# Altium integrated library pld-intel.IntLib: 7 symbols
Pins are listed as number, name and electrical type; pins without a type are passive.

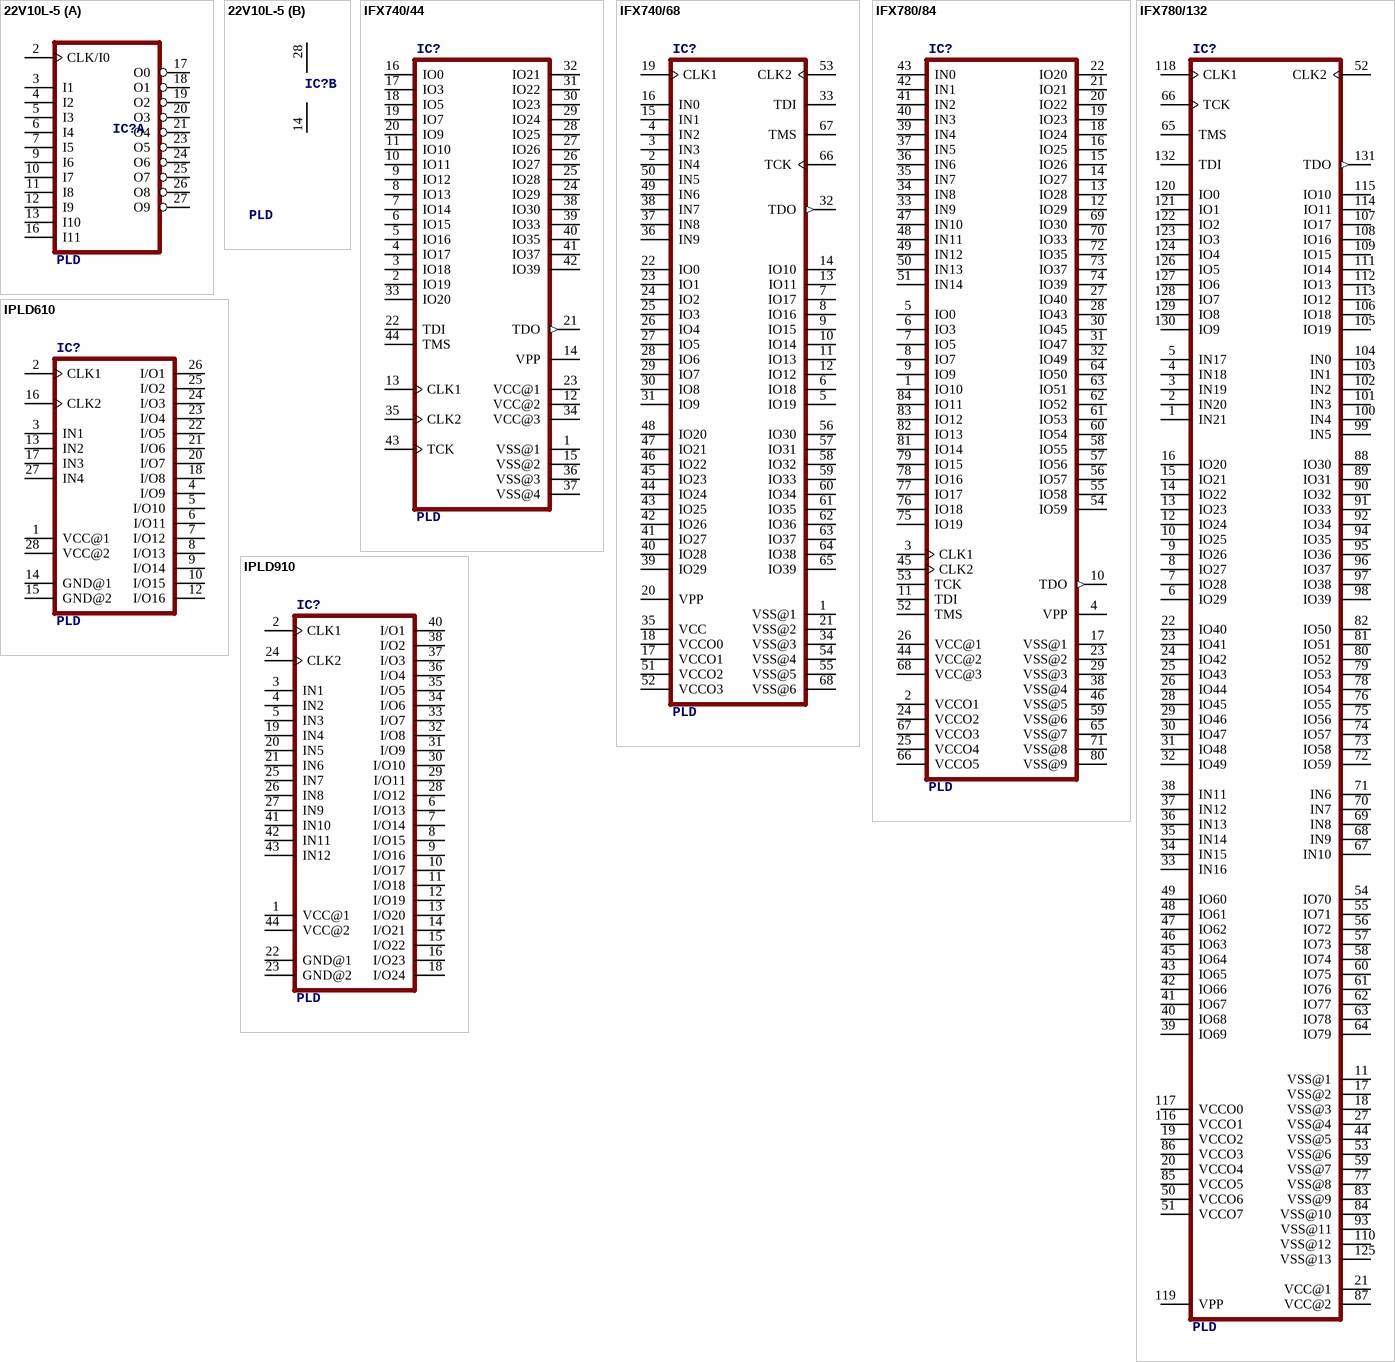
[diagram p0: symbols 22V10L-5 to IPLD910]

## 22V10L-5
designator IC?, comment PLD
OC_FARNELL: unknown; OC_NEWARK: unknown
footprint S28
part A pins: 2 CLK/I0, 3 I1, 4 I2, 5 I3, 6 I4, 7 I5, 9 I6, 10 I7, 11 I8, 12 I9, 13 I10, 16 I11, 17 O0, 18 O1, 19 O2, 20 O3, 21 O4, 23 O5, 24 O6, 25 O7, 26 O8, 27 O9
part B pins: 14 GND (power), 28 VCC (power)

## IFX740/44
designator IC?, comment PLD
OC_FARNELL: unknown; OC_NEWARK: unknown
footprint S44
pins: 1 VSS@1 (power), 2 IO19, 3 IO18, 4 IO17, 5 IO16, 6 IO15, 7 IO14, 8 IO13, 9 IO12, 10 IO11, 11 IO10, 12 VCC@2 (power), 13 CLK1, 14 VPP (oe), 15 VSS@2 (power), 16 IO0, 17 IO3, 18 IO5, 19 IO7, 20 IO9, 21 TDO (out), 22 TDI, 23 VCC@1 (power), 24 IO29, 25 IO28, 26 IO27, 27 IO26, 28 IO25, 29 IO24, 30 IO23, 31 IO22, 32 IO21, 33 IO20, 34 VCC@3 (power), 35 CLK2, 36 VSS@3 (power), 37 VSS@4 (power), 38 IO30, 39 IO33, 40 IO35, 41 IO37, 42 IO39, 43 TCK, 44 TMS

## IFX740/68
designator IC?, comment PLD
OC_FARNELL: unknown; OC_NEWARK: unknown
footprint S68
pins: 1 VSS@1 (power), 2 IN4, 3 IN3, 4 IN2, 5 IO19, 6 IO18, 7 IO17, 8 IO16, 9 IO15, 10 IO14, 11 IO13, 12 IO12, 13 IO11, 14 IO10, 15 IN1, 16 IN0, 17 VCCO1 (oe), 18 VCCO0 (oe), 19 CLK1, 20 VPP (oe), 21 VSS@2 (power), 22 IO0, 23 IO1, 24 IO2, 25 IO3, 26 IO4, 27 IO5, 28 IO6, 29 IO7, 30 IO8, 31 IO9, 32 TDO (out), 33 TDI, 34 VSS@3 (power), 35 VCC (power), 36 IN9, 37 IN8, 38 IN7, 39 IO29, 40 IO28, 41 IO27, 42 IO26, 43 IO25, 44 IO24, 45 IO23, 46 IO22, 47 IO21, 48 IO20, 49 IN6, 50 IN5, 51 VCCO2 (oe), 52 VCCO3 (oe), 53 CLK2, 54 VSS@4 (power), 55 VSS@5 (power), 56 IO30, 57 IO31, 58 IO32, 59 IO33, 60 IO34, 61 IO35, 62 IO36, 63 IO37, 64 IO38, 65 IO39, 66 TCK, 67 TMS, 68 VSS@6 (power)

## IFX780/84
designator IC?, comment PLD
OC_FARNELL: unknown; OC_NEWARK: unknown
footprint S84
pins: 1 IO10, 2 VCCO1 (oe), 3 CLK1, 4 VPP (oe), 5 IO0, 6 IO3, 7 IO5, 8 IO7, 9 IO9, 10 TDO (out), 11 TDI, 12 IO29, 13 IO28, 14 IO27, 15 IO26, 16 IO25, 17 VSS@1 (power), 18 IO24, 19 IO23, 20 IO22, 21 IO21, 22 IO20, 23 VSS@2 (power), 24 VCCO2 (oe), 25 VCCO4 (oe), 26 VCC@1 (power), 27 IO40, 28 IO43, 29 VSS@3 (power), 30 IO45, 31 IO47, 32 IO49, 33 IN9, 34 IN8, 35 IN7, 36 IN6, 37 IN5, 38 VSS@4 (power), 39 IN4, 40 IN3, 41 IN2, 42 IN1, 43 IN0, 44 VCC@2 (power), 45 CLK2, 46 VSS@5 (power), 47 IN10, 48 IN11, 49 IN12, 50 IN13, 51 IN14, 52 TMS, 53 TCK, 54 IO59, 55 IO58, 56 IO57, 57 IO56, 58 IO55, 59 VSS@6 (power), 60 IO54, 61 IO53, 62 IO52, 63 IO51, 64 IO50, 65 VSS@7 (power), 66 VCCO5 (oe), 67 VCCO3 (oe), 68 VCC@3 (power), 69 IO30, 70 IO33, 71 VSS@8 (power), 72 IO35, 73 IO37, 74 IO39, 75 IO19, 76 IO18, 77 IO17, 78 IO16, 79 IO15, 80 VSS@9 (power), 81 IO14, 82 IO13, 83 IO12, 84 IO11

## IFX780/132
designator IC?, comment PLD
OC_FARNELL: unknown; OC_NEWARK: unknown
footprint QFP132
pins: 1 IN21, 2 IN20, 3 IN19, 4 IN18, 5 IN17, 6 IO29, 7 IO28, 8 IO27, 9 IO26, 10 IO25, 11 VSS@1 (power), 12 IO24, 13 IO23, 14 IO22, 15 IO21, 16 IO20, 17 VSS@2 (power), 18 VSS@3 (power), 19 VCCO2 (oe), 20 VCCO4 (oe), 21 VCC@1 (power), 22 IO40, 23 IO41, 24 IO42, 25 IO43, 26 IO44, 27 VSS@4 (power), 28 IO45, 29 IO46, 30 IO47, 31 IO48, 32 IO49, 33 IN16, 34 IN15, 35 IN14, 36 IN13, 37 IN12, 38 IN11, 39 IO69, 40 IO68, 41 IO67, 42 IO66, 43 IO65, 44 VSS@5 (power), 45 IO64, 46 IO63, 47 IO62, 48 IO61, 49 IO60, 50 VCCO6 (oe), 51 VCCO7 (oe), 52 CLK2, 53 VSS@6 (power), 54 IO70, 55 IO71, 56 IO72, 57 IO73, 58 IO74, 59 VSS@7 (power), 60 IO75, 61 IO76, 62 IO77, 63 IO78, 64 IO79, 65 TMS, 66 TCK, 67 IN10, 68 IN9, 69 IN8, 70 IN7, 71 IN6, 72 IO59, 73 IO58, 74 IO57, 75 IO56, 76 IO55, 77 VSS@8 (power), 78 IO54, 79 IO53, 80 IO52, 81 IO51, 82 IO50, 83 VSS@9 (power), 84 VSS@10 (power), 85 VCCO5 (oe), 86 VCCO3 (oe), 87 VCC@2 (power), 88 IO30, 89 IO31, 90 IO32, 91 IO33, 92 IO34, 93 VSS@11 (power), 94 IO35, 95 IO36, 96 IO37, 97 IO38, 98 IO39, 99 IN5, 100 IN4, 101 IN3, 102 IN2, 103 IN1, 104 IN0, 105 IO19, 106 IO18, 107 IO17, 108 IO16, 109 IO15, 110 VSS@12 (power), 111 IO14, 112 IO13, 113 IO12, 114 IO11, 115 IO10, 116 VCCO1 (oe), 117 VCCO0 (oe), 118 CLK1, 119 VPP (oe), 120 IO0, 121 IO1, 122 IO2, 123 IO3, 124 IO4, 125 VSS@13 (power), 126 IO5, 127 IO6, 128 IO7, 129 IO8, 130 IO9, 131 TDO (out), 132 TDI

## IPLD610
designator IC?, comment PLD
OC_FARNELL: unknown; OC_NEWARK: unknown
footprint S28
pins: 1 VCC@1 (power), 2 CLK1, 3 IN1, 4 I/O9, 5 I/O10, 6 I/O11, 7 I/O12, 8 I/O13, 9 I/O14, 10 I/O15, 12 I/O16, 13 IN2, 14 GND@1 (power), 15 GND@2 (power), 16 CLK2, 17 IN3, 18 I/O8, 20 I/O7, 21 I/O6, 22 I/O5, 23 I/O4, 24 I/O3, 25 I/O2, 26 I/O1, 27 IN4, 28 VCC@2 (power)

## IPLD910
designator IC?, comment PLD
OC_FARNELL: unknown; OC_NEWARK: unknown
footprint S44
pins: 1 VCC@1 (power), 2 CLK1, 3 IN1, 4 IN2, 5 IN3, 6 I/O13, 7 I/O14, 8 I/O15, 9 I/O16, 10 I/O17, 11 I/O18, 12 I/O19, 13 I/O20, 14 I/O21, 15 I/O22, 16 I/O23, 18 I/O24, 19 IN4, 20 IN5, 21 IN6, 22 GND@1 (power), 23 GND@2 (power), 24 CLK2, 25 IN7, 26 IN8, 27 IN9, 28 I/O12, 29 I/O11, 30 I/O10, 31 I/O9, 32 I/O8, 33 I/O7, 34 I/O6, 35 I/O5, 36 I/O4, 37 I/O3, 38 I/O2, 40 I/O1, 41 IN10, 42 IN11, 43 IN12, 44 VCC@2 (power)